# EAGLE library part TEENSY-3.2-BREAKOUT-REV-B-CARRIER (library Teensy-Breakout-Eagle-Library)
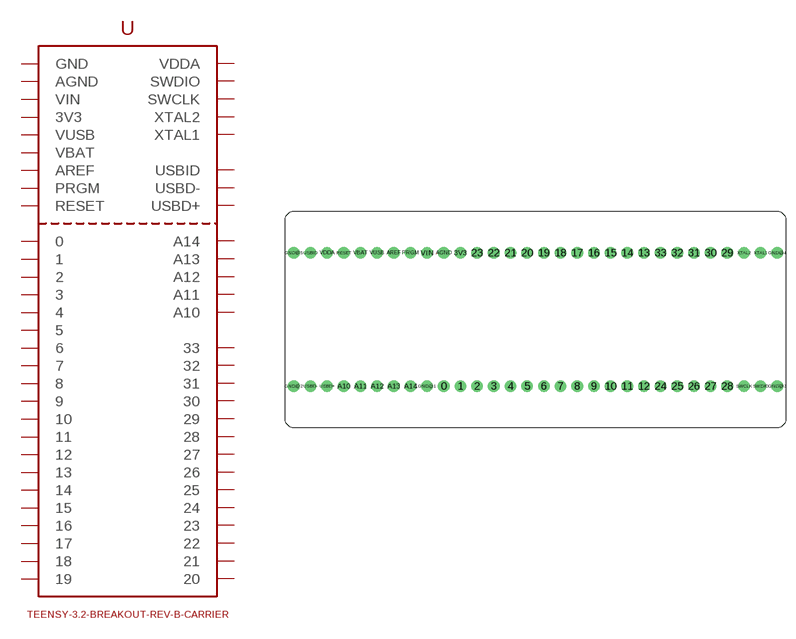
[diagram p1: symbol with the pads of TEENSY-3.2-BREAKOUT-REV-B-CARRIER; footprint TEENSY-3.2-BREAKOUT-REV-B-CARRIER]

Designator prefix -

## TEENSY-3.2-BREAKOUT-REV-B-CARRIER  [TEENSY-3.2-BREAKOUT-REV-B-CARRIER]
0  0
1  1
2  2
3  3
3V3  3V3
4  4
5  5
6  6
7  7
8  8
9  9
10  10
11  11
12  12
13  13
14  14
15  15
16  16
17  17
18  18
19  19
20  20
21  21
22  22
23  23
24  24
25  25
26  26
27  27
28  28
29  29
30  30
31  31
32  32
33  33
A10  A10
A11  A11
A12  A12
A13  A13
A14  A14
AGND  AGND
AREF  AREF
GND@1  GND
GND@2  GND
GND@3  GND
GND@4  GND
GND@5  GND
PRGM  PRGM
RESET  RESET
SWCLK  SWCLK
SWDIO  SWDIO
USBD+  USBD+
USBD-  USBD-
USBID  USBID
VBAT  VBAT
VDDA  VDDA
VIN  VIN
VUSB  VUSB
XTAL1  XTAL1
XTAL2  XTAL2

## Footprint TEENSY-3.2-BREAKOUT-REV-B-CARRIER (pad centres in mm)
drill 1.016 pad 1.778: 0 24.13,6.35; 1 26.67,6.35; 2 29.21,6.35; 3 31.75,6.35; 3V3 26.67,26.67; 4 34.29,6.35; 5 36.83,6.35; 6 39.37,6.35; 7 41.91,6.35; 8 44.45,6.35; 9 46.99,6.35; 10 49.53,6.35; 11 52.07,6.35; 12 54.61,6.35; 13 54.61,26.67; 14 52.07,26.67; 15 49.53,26.67; 16 46.99,26.67; 17 44.45,26.67; 18 41.91,26.67; 19 39.37,26.67; 20 36.83,26.67; 21 34.29,26.67; 22 31.75,26.67; 23 29.21,26.67; 24 57.15,6.35; 25 59.69,6.35; 26 62.23,6.35; 27 64.77,6.35; 28 67.31,6.35; 29 67.31,26.67; 30 64.77,26.67; 31 62.23,26.67; 32 59.69,26.67; 33 57.15,26.67; A10 8.89,6.35; A11 11.43,6.35; A12 13.97,6.35; A13 16.51,6.35; A14 19.05,6.35; AGND 24.13,26.67; AREF 16.51,26.67; GND@1 21.59,6.35; GND@2 1.27,6.35; GND@3 74.93,6.35; GND@4 74.93,26.67; GND@5 1.27,26.67; PRGM 19.05,26.67; RESET 8.89,26.67; SWCLK 69.85,6.35; SWDIO 72.39,6.35; USBD+ 6.35,6.35; USBD- 3.81,6.35; USBID 3.81,26.67; VBAT 11.43,26.67; VDDA 6.35,26.67; VIN 21.59,26.67; VUSB 13.97,26.67; XTAL1 72.39,26.67; XTAL2 69.85,26.67